# EAGLE library part 1X8 (library headers(.1in)(samtec))
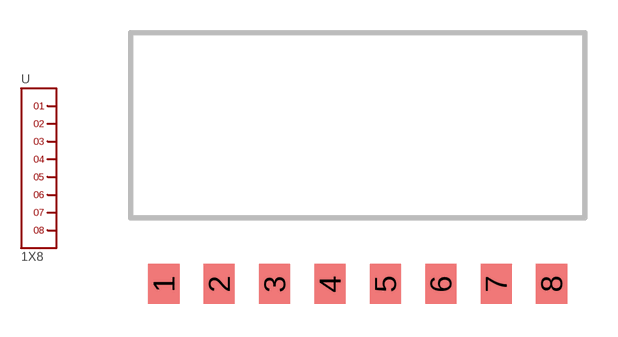
[diagram p1: symbol with the pads of SMH-108-XX-X-S; footprint SMH-108-XX-X-S]

Designator prefix -

## 1X8.SMH.S  [SMH-108-XX-X-S]
1  1
2  2
3  3
4  4
5  5
6  6
7  7
8  8

## Footprint SMH-108-XX-X-S (pad centres in mm)
smd 1.422 x 1.829: 1 -8.89,0; 2 -6.35,0; 3 -3.81,0; 4 -1.27,0; 5 1.27,0; 6 3.81,0; 7 6.35,0; 8 8.89,0